# EAGLE library part ACCEL-STMICRO- (library boydcircuits)
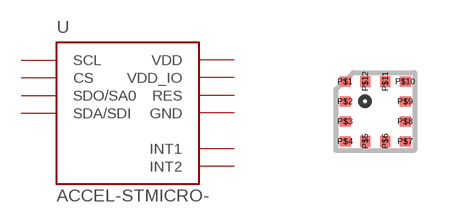
[diagram p4: symbol with the pads of LGA-12-STMICRO; footprint LGA-12-STMICRO]

Designator prefix U

## ACCEL-STMICRO-LIS2DS12  [LGA-12-STMICRO]
P$1  SCL
P$2  CS
P$3  SDO/SA0
P$4  SDA/SDI
P$5  GND
P$6  GND
P$7  RES
P$8  GND
P$9  VDD
P$10  VDD_IO
P$11  INT2
P$12  INT1

## ACCEL-STMICRO-LIS2HH12  [LGA-12-STMICRO]
P$1  SCL
P$2  CS
P$3  SDO/SA0
P$4  SDA/SDI
P$5  RES
P$6  GND
P$7  GND
P$8  GND
P$9  VDD
P$10  VDD_IO
P$11  INT2
P$12  INT1

## Footprint LGA-12-STMICRO (pad centres in mm)
smd 0.275 x 0.25: P$1 0,0; P$2 0,-0.5; P$3 0,-1; P$4 0,-1.5; P$7 1.5,-1.5; P$8 1.5,-1; P$9 1.5,-0.5; P$10 1.5,0
smd 0.25 x 0.275: P$5 0.5,-1.5; P$6 1,-1.5; P$11 1,0; P$12 0.5,0